# Altium footprint library LED-0603-CATHODE.PcbLib: 1 footprints
Each footprint in its own frame and in the unit in brackets; x right, y up, seen from the top. Pads: shape width x height; smd on the part's side, far side on the other; paste and mask are expansions set on the pad; w line width, h text height; cw(c..) or ccw(c..) is an arc to the next point about the centre after c.
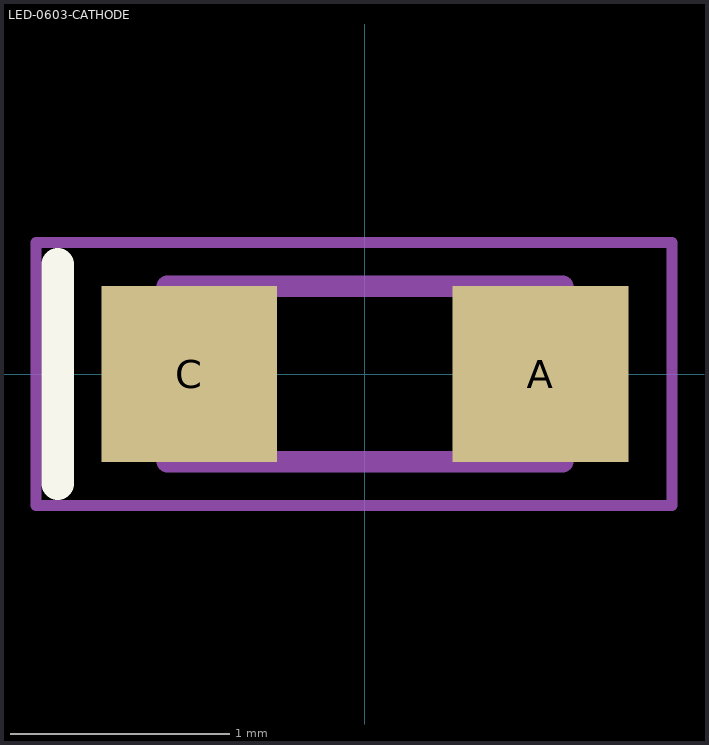
[diagram p0: the footprint, top view; thin cyan lines are the x and y axes]

## LED-0603-CATHODE [mm] "0603 Led cathode marking"
height 0.7
pads (2):
  rect 0.8x0.8 smd: A(0.8,0) C(-0.8,0)
Top Overlay:
  lines w0.15: -1.4,-0.5 -1.4,0.5
Top Assembly:
  lines w0.1: -0.9,-0.4 -0.9,0.4 0.9,0.4 0.9,-0.4 -0.9,-0.4
Top Courtyard:
  lines w0.05: -1.5,-0.6 1.4,-0.6 1.4,0.6 -1.5,0.6 -1.5,-0.6
Top Designator:
  text ".Designator" at -1.999,-0.133 h0.4
3D body "STP_150060xS75000 (rev1).stp": height 0.7, standoff 0, extent -0.8,-0.4 0.8,0.4